# Altium footprint library Interface_I2C.PcbLib: 99 footprints (part 3 of 7)
Each footprint in its own frame and in the unit in brackets; x right, y up, seen from the top. Pads: shape width x height; smd on the part's side, far side on the other; paste and mask are expansions set on the pad; w line width, h text height; cw(c..) or ccw(c..) is an arc to the next point about the centre after c.
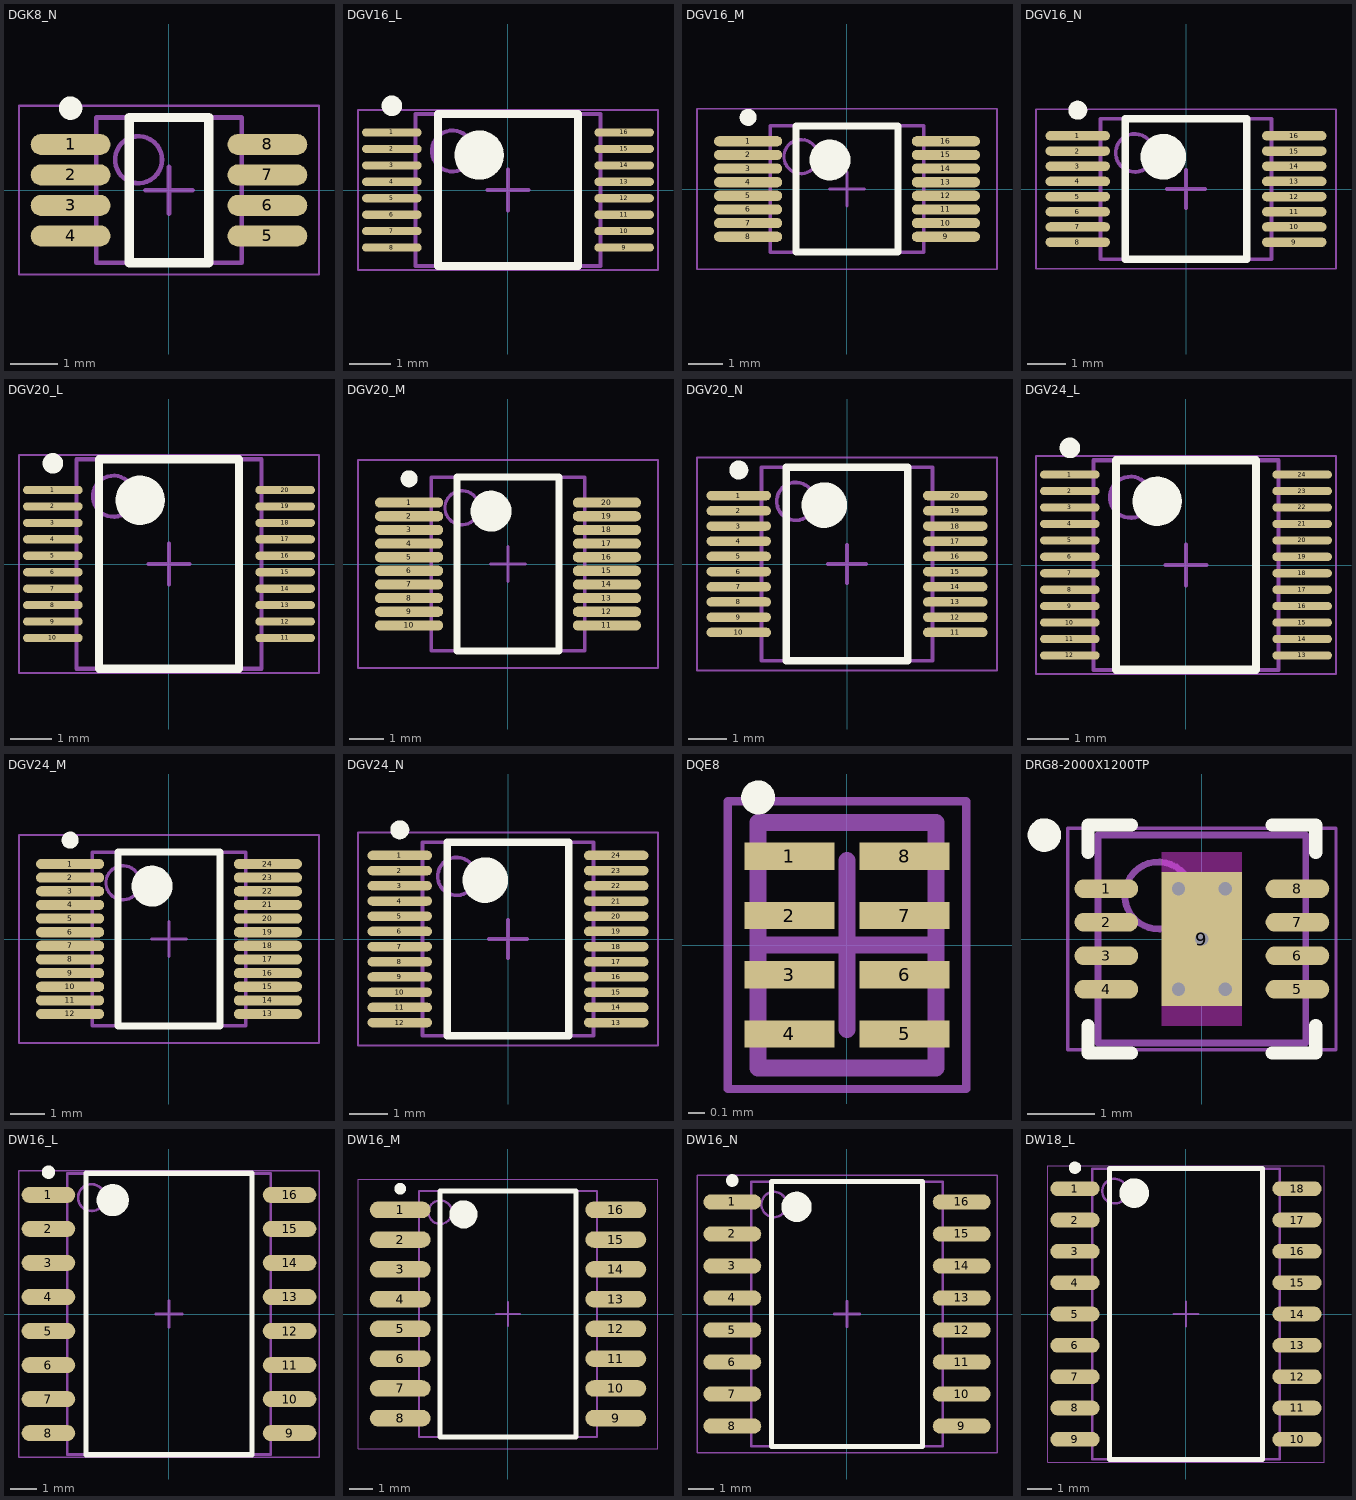
[diagram p2: the footprints below, top view; thin cyan lines are the x and y axes]

## DGK8_N [mm] "TSOP, 8-Leads, Body 3x3mm, Pitch 0.65mm, IPC Medium Density"
height 1.1
pads (8):
  oval 1.7x0.45 smd: 1(-2.1,0.975) 2(-2.1,0.325) 3(-2.1,-0.325) 4(-2.1,-0.975) 5(2.1,-0.975) 6(2.1,-0.325) 7(2.1,0.325) 8(2.1,0.975)
Top Overlay:
  circle w0.25: c-2.1,1.75 r0.125
  lines w0.2: -0.85,-1.55 0.85,-1.55 0.85,1.55 -0.85,1.55 -0.85,-1.55
Mechanical 13:
  circle w0.1: c-0.65,0.65 r0.5
  lines w0.1: -1.55,-1.55 1.55,-1.55 1.55,1.55 -1.55,1.55 -1.55,-1.55
Mechanical 15:
  lines w0.05: -3.2,-1.8 3.2,-1.8 3.2,1.8 -3.2,1.8 -3.2,-1.8
  lines w0.1: -0.5,0 0.5,0 ; 0,-0.5 0,0.5
3D body: height 1.1, standoff 0.05, extent -1.55,-1.55 1.55,1.55

## DGV16_L [mm] "TSSOP, 16-Leads, Body 3.6x4.4mm, Pitch 0.4mm, IPC High Density"
height 1.2
pads (16):
  oval 1.45x0.2 smd: 1(-2.825,1.4) 2(-2.825,1) 3(-2.825,0.6) 4(-2.825,0.2) 5(-2.825,-0.2) 6(-2.825,-0.6) 7(-2.825,-1) 8(-2.825,-1.4) 9(2.825,-1.4) 10(2.825,-1) 11(2.825,-0.6) 12(2.825,-0.2) 13(2.825,0.2) 14(2.825,0.6) 15(2.825,1) 16(2.825,1.4)
Top Overlay:
  circle w0.6: c-0.7,0.85 r0.3
  circle w0.25: c-2.825,2.05 r0.125
  lines w0.2: -1.7,-1.85 1.7,-1.85 1.7,1.85 -1.7,1.85 -1.7,-1.85
Mechanical 13:
  circle w0.1: c-1.35,0.95 r0.5
  lines w0.1: -2.25,-1.85 2.25,-1.85 2.25,1.85 -2.25,1.85 -2.25,-1.85
Mechanical 15:
  lines w0.05: -3.65,-1.95 3.65,-1.95 3.65,1.95 -3.65,1.95 -3.65,-1.95
  lines w0.1: -0.5,0 0.5,0 ; 0,-0.5 0,0.5
3D body: height 1.2, standoff 0.05, extent -2.25,-1.85 2.25,1.85

## DGV16_M [mm] "TSSOP, 16-Leads, Body 3.6x4.4mm, Pitch 0.4mm, IPC Low Density"
height 1.2
pads (16):
  oval 2x0.3 smd: 1(-2.9,1.4) 2(-2.9,1) 3(-2.9,0.6) 4(-2.9,0.2) 5(-2.9,-0.2) 6(-2.9,-0.6) 7(-2.9,-1) 8(-2.9,-1.4) 9(2.9,-1.4) 10(2.9,-1) 11(2.9,-0.6) 12(2.9,-0.2) 13(2.9,0.2) 14(2.9,0.6) 15(2.9,1) 16(2.9,1.4)
Top Overlay:
  circle w0.6: c-0.5,0.85 r0.3
  circle w0.25: c-2.9,2.1 r0.125
  lines w0.2: -1.5,-1.85 1.5,-1.85 1.5,1.85 -1.5,1.85 -1.5,-1.85
Mechanical 13:
  circle w0.1: c-1.35,0.95 r0.5
  lines w0.1: -2.25,-1.85 2.25,-1.85 2.25,1.85 -2.25,1.85 -2.25,-1.85
Mechanical 15:
  lines w0.05: -4.4,-2.35 4.4,-2.35 4.4,2.35 -4.4,2.35 -4.4,-2.35
  lines w0.1: -0.5,0 0.5,0 ; 0,-0.5 0,0.5
3D body: height 1.2, standoff 0.05, extent -2.25,-1.85 2.25,1.85

## DGV16_N [mm] "TSSOP, 16-Leads, Body 3.6x4.4mm, Pitch 0.4mm, IPC Medium Density"
height 1.2
pads (16):
  oval 1.7x0.25 smd: 1(-2.85,1.4) 2(-2.85,1) 3(-2.85,0.6) 4(-2.85,0.2) 5(-2.85,-0.2) 6(-2.85,-0.6) 7(-2.85,-1) 8(-2.85,-1.4) 9(2.85,-1.4) 10(2.85,-1) 11(2.85,-0.6) 12(2.85,-0.2) 13(2.85,0.2) 14(2.85,0.6) 15(2.85,1) 16(2.85,1.4)
Top Overlay:
  circle w0.6: c-0.6,0.85 r0.3
  circle w0.25: c-2.85,2.075 r0.125
  lines w0.2: -1.6,-1.85 1.6,-1.85 1.6,1.85 -1.6,1.85 -1.6,-1.85
Mechanical 13:
  circle w0.1: c-1.35,0.95 r0.5
  lines w0.1: -2.25,-1.85 2.25,-1.85 2.25,1.85 -2.25,1.85 -2.25,-1.85
Mechanical 15:
  lines w0.05: -3.95,-2.1 3.95,-2.1 3.95,2.1 -3.95,2.1 -3.95,-2.1
  lines w0.1: -0.5,0 0.5,0 ; 0,-0.5 0,0.5
3D body: height 1.2, standoff 0.05, extent -2.25,-1.85 2.25,1.85

## DGV20_L [mm] "TSSOP, 20-Leads, Body 5x4.4mm, Pitch 0.4mm, IPC High Density"
height 1.2
pads (20):
  oval 1.45x0.2 smd: 1(-2.825,1.8) 2(-2.825,1.4) 3(-2.825,1) 4(-2.825,0.6) 5(-2.825,0.2) 6(-2.825,-0.2) 7(-2.825,-0.6) 8(-2.825,-1) 9(-2.825,-1.4) 10(-2.825,-1.8) 11(2.825,-1.8) 12(2.825,-1.4) 13(2.825,-1) 14(2.825,-0.6) 15(2.825,-0.2) 16(2.825,0.2) 17(2.825,0.6) 18(2.825,1) 19(2.825,1.4) 20(2.825,1.8)
Top Overlay:
  circle w0.6: c-0.7,1.55 r0.3
  circle w0.25: c-2.825,2.45 r0.125
  lines w0.2: -1.7,-2.55 1.7,-2.55 1.7,2.55 -1.7,2.55 -1.7,-2.55
Mechanical 13:
  circle w0.1: c-1.35,1.65 r0.5
  lines w0.1: -2.25,-2.55 2.25,-2.55 2.25,2.55 -2.25,2.55 -2.25,-2.55
Mechanical 15:
  lines w0.05: -3.65,-2.65 3.65,-2.65 3.65,2.65 -3.65,2.65 -3.65,-2.65
  lines w0.1: -0.5,0 0.5,0 ; 0,-0.5 0,0.5
3D body: height 1.2, standoff 0.05, extent -2.25,-2.55 2.25,2.55

## DGV20_M [mm] "TSSOP, 20-Leads, Body 5x4.4mm, Pitch 0.4mm, IPC Low Density"
height 1.2
pads (20):
  oval 2x0.3 smd: 1(-2.9,1.8) 2(-2.9,1.4) 3(-2.9,1) 4(-2.9,0.6) 5(-2.9,0.2) 6(-2.9,-0.2) 7(-2.9,-0.6) 8(-2.9,-1) 9(-2.9,-1.4) 10(-2.9,-1.8) 11(2.9,-1.8) 12(2.9,-1.4) 13(2.9,-1) 14(2.9,-0.6) 15(2.9,-0.2) 16(2.9,0.2) 17(2.9,0.6) 18(2.9,1) 19(2.9,1.4) 20(2.9,1.8)
Top Overlay:
  circle w0.6: c-0.5,1.55 r0.3
  circle w0.25: c-2.9,2.5 r0.125
  lines w0.2: -1.5,-2.55 1.5,-2.55 1.5,2.55 -1.5,2.55 -1.5,-2.55
Mechanical 13:
  circle w0.1: c-1.35,1.65 r0.5
  lines w0.1: -2.25,-2.55 2.25,-2.55 2.25,2.55 -2.25,2.55 -2.25,-2.55
Mechanical 15:
  lines w0.05: -4.4,-3.05 4.4,-3.05 4.4,3.05 -4.4,3.05 -4.4,-3.05
  lines w0.1: -0.5,0 0.5,0 ; 0,-0.5 0,0.5
3D body: height 1.2, standoff 0.05, extent -2.25,-2.55 2.25,2.55

## DGV20_N [mm] "TSSOP, 20-Leads, Body 5x4.4mm, Pitch 0.4mm, IPC Medium Density"
height 1.2
pads (20):
  oval 1.7x0.25 smd: 1(-2.85,1.8) 2(-2.85,1.4) 3(-2.85,1) 4(-2.85,0.6) 5(-2.85,0.2) 6(-2.85,-0.2) 7(-2.85,-0.6) 8(-2.85,-1) 9(-2.85,-1.4) 10(-2.85,-1.8) 11(2.85,-1.8) 12(2.85,-1.4) 13(2.85,-1) 14(2.85,-0.6) 15(2.85,-0.2) 16(2.85,0.2) 17(2.85,0.6) 18(2.85,1) 19(2.85,1.4) 20(2.85,1.8)
Top Overlay:
  circle w0.6: c-0.6,1.55 r0.3
  circle w0.25: c-2.85,2.475 r0.125
  lines w0.2: -1.6,-2.55 1.6,-2.55 1.6,2.55 -1.6,2.55 -1.6,-2.55
Mechanical 13:
  circle w0.1: c-1.35,1.65 r0.5
  lines w0.1: -2.25,-2.55 2.25,-2.55 2.25,2.55 -2.25,2.55 -2.25,-2.55
Mechanical 15:
  lines w0.05: -3.95,-2.8 3.95,-2.8 3.95,2.8 -3.95,2.8 -3.95,-2.8
  lines w0.1: -0.5,0 0.5,0 ; 0,-0.5 0,0.5
3D body: height 1.2, standoff 0.05, extent -2.25,-2.55 2.25,2.55

## DGV24_L [mm] "TSSOP, 24-Leads, Body 5x4.4mm, Pitch 0.4mm, IPC High Density"
height 1.2
pads (24):
  oval 1.45x0.2 smd: 1(-2.825,2.2) 2(-2.825,1.8) 3(-2.825,1.4) 4(-2.825,1) 5(-2.825,0.6) 6(-2.825,0.2) 7(-2.825,-0.2) 8(-2.825,-0.6) 9(-2.825,-1) 10(-2.825,-1.4) 11(-2.825,-1.8) 12(-2.825,-2.2) 13(2.825,-2.2) 14(2.825,-1.8) 15(2.825,-1.4) 16(2.825,-1) 17(2.825,-0.6) 18(2.825,-0.2) 19(2.825,0.2) 20(2.825,0.6) 21(2.825,1) 22(2.825,1.4) 23(2.825,1.8) 24(2.825,2.2)
Top Overlay:
  circle w0.6: c-0.7,1.55 r0.3
  circle w0.25: c-2.825,2.85 r0.125
  lines w0.2: -1.7,-2.55 1.7,-2.55 1.7,2.55 -1.7,2.55 -1.7,-2.55
Mechanical 13:
  circle w0.1: c-1.35,1.65 r0.5
  lines w0.1: -2.25,-2.55 2.25,-2.55 2.25,2.55 -2.25,2.55 -2.25,-2.55
Mechanical 15:
  lines w0.05: -3.65,-2.65 3.65,-2.65 3.65,2.65 -3.65,2.65 -3.65,-2.65
  lines w0.1: -0.5,0 0.5,0 ; 0,-0.5 0,0.5
3D body: height 1.2, standoff 0.05, extent -2.25,-2.55 2.25,2.55

## DGV24_M [mm] "TSSOP, 24-Leads, Body 5x4.4mm, Pitch 0.4mm, IPC Low Density"
height 1.2
pads (24):
  oval 2x0.3 smd: 1(-2.9,2.2) 2(-2.9,1.8) 3(-2.9,1.4) 4(-2.9,1) 5(-2.9,0.6) 6(-2.9,0.2) 7(-2.9,-0.2) 8(-2.9,-0.6) 9(-2.9,-1) 10(-2.9,-1.4) 11(-2.9,-1.8) 12(-2.9,-2.2) 13(2.9,-2.2) 14(2.9,-1.8) 15(2.9,-1.4) 16(2.9,-1) 17(2.9,-0.6) 18(2.9,-0.2) 19(2.9,0.2) 20(2.9,0.6) 21(2.9,1) 22(2.9,1.4) 23(2.9,1.8) 24(2.9,2.2)
Top Overlay:
  circle w0.6: c-0.5,1.55 r0.3
  circle w0.25: c-2.9,2.9 r0.125
  lines w0.2: -1.5,-2.55 1.5,-2.55 1.5,2.55 -1.5,2.55 -1.5,-2.55
Mechanical 13:
  circle w0.1: c-1.35,1.65 r0.5
  lines w0.1: -2.25,-2.55 2.25,-2.55 2.25,2.55 -2.25,2.55 -2.25,-2.55
Mechanical 15:
  lines w0.05: -4.4,-3.05 4.4,-3.05 4.4,3.05 -4.4,3.05 -4.4,-3.05
  lines w0.1: -0.5,0 0.5,0 ; 0,-0.5 0,0.5
3D body: height 1.2, standoff 0.05, extent -2.25,-2.55 2.25,2.55

## DGV24_N [mm] "TSSOP, 24-Leads, Body 5x4.4mm, Pitch 0.4mm, IPC Medium Density"
height 1.2
pads (24):
  oval 1.7x0.25 smd: 1(-2.85,2.2) 2(-2.85,1.8) 3(-2.85,1.4) 4(-2.85,1) 5(-2.85,0.6) 6(-2.85,0.2) 7(-2.85,-0.2) 8(-2.85,-0.6) 9(-2.85,-1) 10(-2.85,-1.4) 11(-2.85,-1.8) 12(-2.85,-2.2) 13(2.85,-2.2) 14(2.85,-1.8) 15(2.85,-1.4) 16(2.85,-1) 17(2.85,-0.6) 18(2.85,-0.2) 19(2.85,0.2) 20(2.85,0.6) 21(2.85,1) 22(2.85,1.4) 23(2.85,1.8) 24(2.85,2.2)
Top Overlay:
  circle w0.6: c-0.6,1.55 r0.3
  circle w0.25: c-2.85,2.875 r0.125
  lines w0.2: -1.6,-2.55 1.6,-2.55 1.6,2.55 -1.6,2.55 -1.6,-2.55
Mechanical 13:
  circle w0.1: c-1.35,1.65 r0.5
  lines w0.1: -2.25,-2.55 2.25,-2.55 2.25,2.55 -2.25,2.55 -2.25,-2.55
Mechanical 15:
  lines w0.05: -3.95,-2.8 3.95,-2.8 3.95,2.8 -3.95,2.8 -3.95,-2.8
  lines w0.1: -0.5,0 0.5,0 ; 0,-0.5 0,0.5
3D body: height 1.2, standoff 0.05, extent -2.25,-2.55 2.25,2.55

## DQE8 [mm] "SON, 8-Leads, Body 1.4x1mm, Pitch 0.35mm, TI Recommended"
height 0.4
pads (8):
  rect 0.53x0.16 smd mask+0.05: 1(-0.34,0.525) 2(-0.34,0.175) 3(-0.34,-0.175) 4(-0.34,-0.525) 5(0.34,-0.525) 6(0.34,-0.175) 7(0.34,0.175) 8(0.34,0.525)
Top Overlay:
  circle w0.1: c-0.525,0.873 r0.05
Mechanical 13:
  lines w0.1: -0.525,-0.725 -0.525,0.725 0.525,0.725 0.525,-0.725 -0.525,-0.725
Mechanical 15:
  lines w0.05: -0.705,-0.85 0.705,-0.85 0.705,0.85 -0.705,0.85 -0.705,-0.85
  lines w0.1: -0.5,0 0.5,0 ; 0,-0.5 0,0.5
3D body: height 0.4, standoff 0, extent -0.525,-0.725 0.525,0.725

## DRG8-2000X1200TP [mm] "SON, 8-Leads, Body 3x3mm, Pitch 0.5mm, Thermal Pad 2x1.2mm, TI Recommended"
height 0.8
pads (9):
  oval 0.95x0.28 smd paste-0.025 mask+0.07: 1(-1.425,0.75) 2(-1.425,0.25) 3(-1.425,-0.25) 4(-1.425,-0.75) 5(1.425,-0.75) 6(1.425,-0.25) 7(1.425,0.25) 8(1.425,0.75)
  rect 1.2x2 smd paste-0.6 mask+0.07: 9(0,0)
via 0.35,0.75 diameter 0.5 hole 0.2
via -0.35,0.75 diameter 0.5 hole 0.2
via -0.35,-0.75 diameter 0.5 hole 0.2
via 0,0 diameter 0.5 hole 0.2
via 0.35,-0.75 diameter 0.5 hole 0.2
Top Overlay:
  circle w0.25: c-2.35,1.55 r0.125
  lines w0.2: -1.7,-1.29 -1.7,-1.7 -1.05,-1.7 ; -1.7,1.29 -1.7,1.7 -1.05,1.7 ; 1.05,-1.7 1.7,-1.7 1.7,-1.29 ; 1.05,1.7 1.7,1.7 1.7,1.29
Top Paste:
  rectangle: -0.5,0.1 0.5,0.95
  region: 0.5,-0.1 -0.5,-0.1 -0.5,-0.95 0.5,-0.95
Drill Guide keep-out:
  rectangle: -0.6,1 0.6,1.3
  region: 0.6,-1 -0.6,-1 -0.6,-1.3 0.6,-1.3
Mechanical 13:
  circle w0.1: c-0.65,0.65 r0.5
  lines w0.1: -1.55,-1.55 -1.55,1.55 1.55,1.55 1.55,-1.55 -1.55,-1.55
Mechanical 15:
  lines w0.05: -2,-1.65 -2,1.65 2,1.65 2,-1.65 -2,-1.65
  lines w0.1: -0.5,0 0.5,0 ; 0,-0.5 0,0.5
3D body: height 0.8, standoff 0, extent -1.55,-1.55 1.55,1.55

## DW16_L [mm] "SOIC, 16-Leads, Body 10.3x7.5mm, Pitch 1.27mm, IPC High Density"
height 2.64
pads (16):
  oval 2x0.6 smd: 1(-4.5,4.445) 2(-4.5,3.175) 3(-4.5,1.905) 4(-4.5,0.635) 5(-4.5,-0.635) 6(-4.5,-1.905) 7(-4.5,-3.175) 8(-4.5,-4.445) 9(4.5,-4.445) 10(4.5,-3.175) 11(4.5,-1.905) 12(4.5,-0.635) 13(4.5,0.635) 14(4.5,1.905) 15(4.5,3.175) 16(4.5,4.445)
Top Overlay:
  circle w0.6: c-2.1,4.25 r0.3
  circle w0.25: c-4.5,5.295 r0.125
  lines w0.2: -3.1,-5.25 3.1,-5.25 3.1,5.25 -3.1,5.25 -3.1,-5.25
Mechanical 13:
  circle w0.1: c-2.895,4.345 r0.5
  lines w0.1: -3.795,-5.245 3.795,-5.245 3.795,5.245 -3.795,5.245 -3.795,-5.245
Mechanical 15:
  lines w0.05: -5.6,-5.35 5.6,-5.35 5.6,5.35 -5.6,5.35 -5.6,-5.35
  lines w0.1: -0.5,0 0.5,0 ; 0,-0.5 0,0.5
3D body: height 2.64, standoff 0.1, extent -3.795,-5.245 3.795,5.245

## DW16_M [mm] "SOIC, 16-Leads, Body 10.3x7.5mm, Pitch 1.27mm, IPC Low Density"
height 2.64
pads (16):
  oval 2.6x0.7 smd: 1(-4.6,4.445) 2(-4.6,3.175) 3(-4.6,1.905) 4(-4.6,0.635) 5(-4.6,-0.635) 6(-4.6,-1.905) 7(-4.6,-3.175) 8(-4.6,-4.445) 9(4.6,-4.445) 10(4.6,-3.175) 11(4.6,-1.905) 12(4.6,-0.635) 13(4.6,0.635) 14(4.6,1.905) 15(4.6,3.175) 16(4.6,4.445)
Top Overlay:
  circle w0.25: c-4.6,5.345 r0.125
  circle w0.6: c-1.9,4.25 r0.3
  lines w0.2: -2.9,-5.25 -2.9,5.25 2.9,5.25 2.9,-5.25 -2.9,-5.25
Mechanical 13:
  circle w0.1: c-2.895,4.345 r0.5
  lines w0.1: -3.795,-5.245 -3.795,5.245 3.795,5.245 3.795,-5.245 -3.795,-5.245
Mechanical 15:
  lines w0.05: -6.4,-5.75 -6.4,5.75 6.4,5.75 6.4,-5.75 -6.4,-5.75
  lines w0.1: -0.5,0 0.5,0 ; 0,-0.5 0,0.5
3D body: height 2.64, standoff 0.1, extent -3.795,-5.245 3.795,5.245

## DW16_N [mm] "SOIC, 16-Leads, Body 10.3x7.5mm, Pitch 1.27mm, IPC Medium Density"
height 2.64
pads (16):
  oval 2.3x0.6 smd: 1(-4.55,4.445) 2(-4.55,3.175) 3(-4.55,1.905) 4(-4.55,0.635) 5(-4.55,-0.635) 6(-4.55,-1.905) 7(-4.55,-3.175) 8(-4.55,-4.445) 9(4.55,-4.445) 10(4.55,-3.175) 11(4.55,-1.905) 12(4.55,-0.635) 13(4.55,0.635) 14(4.55,1.905) 15(4.55,3.175) 16(4.55,4.445)
Top Overlay:
  circle w0.25: c-4.55,5.295 r0.125
  circle w0.6: c-2,4.25 r0.3
  lines w0.2: -3,-5.25 -3,5.25 3,5.25 3,-5.25 -3,-5.25
Mechanical 13:
  circle w0.1: c-2.895,4.345 r0.5
  lines w0.1: -3.795,-5.245 -3.795,5.245 3.795,5.245 3.795,-5.245 -3.795,-5.245
Mechanical 15:
  lines w0.05: -5.95,-5.5 -5.95,5.5 5.95,5.5 5.95,-5.5 -5.95,-5.5
  lines w0.1: -0.5,0 0.5,0 ; 0,-0.5 0,0.5
3D body: height 2.64, standoff 0.1, extent -3.795,-5.245 3.795,5.245

## DW18_L [mm] "SOIC, 18-Leads, Body 11.6x7.5mm, Pitch 1.27mm, IPC High Density"
height 2.64
pads (18):
  oval 2x0.6 smd: 1(-4.5,5.08) 2(-4.5,3.81) 3(-4.5,2.54) 4(-4.5,1.27) 5(-4.5,0) 6(-4.5,-1.27) 7(-4.5,-2.54) 8(-4.5,-3.81) 9(-4.5,-5.08) 10(4.5,-5.08) 11(4.5,-3.81) 12(4.5,-2.54) 13(4.5,-1.27) 14(4.5,0) 15(4.5,1.27) 16(4.5,2.54) 17(4.5,3.81) 18(4.5,5.08)
Top Overlay:
  circle w0.6: c-2.1,4.9 r0.3
  circle w0.25: c-4.5,5.93 r0.125
  lines w0.2: -3.1,-5.9 3.1,-5.9 3.1,5.9 -3.1,5.9 -3.1,-5.9
Mechanical 13:
  circle w0.1: c-2.895,4.98 r0.5
  lines w0.1: -3.795,-5.88 3.795,-5.88 3.795,5.88 -3.795,5.88 -3.795,-5.88
Mechanical 15:
  lines w0.05: -5.6,-6 5.6,-6 5.6,6 -5.6,6 -5.6,-6
  lines w0.1: -0.5,0 0.5,0 ; 0,-0.5 0,0.5
3D body: height 2.64, standoff 0.1, extent -3.795,-5.88 3.795,5.88